# EAGLE library part SH-5 (library Connectors > JST > SH)
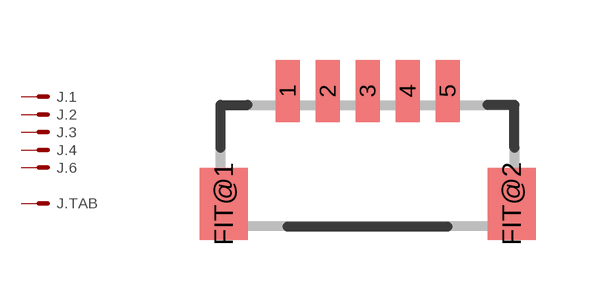
[diagram p1: symbol with the pads of SM05B-SSR-H-TB; footprint SM05B-SSR-H-TB]

Designator prefix J; gates .1=K .2=K .3=K .4=K .6=K .TAB=K

## SH-5  [SM05B-SSR-H-TB]
1  .1:S  pas
2  .2:S  pas
3  .3:S  pas
4  .4:S  pas
5  .6:S  pas
FIT@1  .TAB:S  pas
FIT@2  .TAB:S  pas

## Footprint SM05B-SSR-H-TB (pad centres in mm)
Shrouded Header
smd 0.6 x 1.55: 1 -2,1.925; 2 -1,1.925; 3 0,1.925; 4 1,1.925; 5 2,1.925
smd 1.2 x 1.8: FIT@1 -3.6,-0.9; FIT@2 3.6,-0.9